# EAGLE library part 74*151 (library 74ttl-din)
Data SELECTOR/MULTIPLEXER
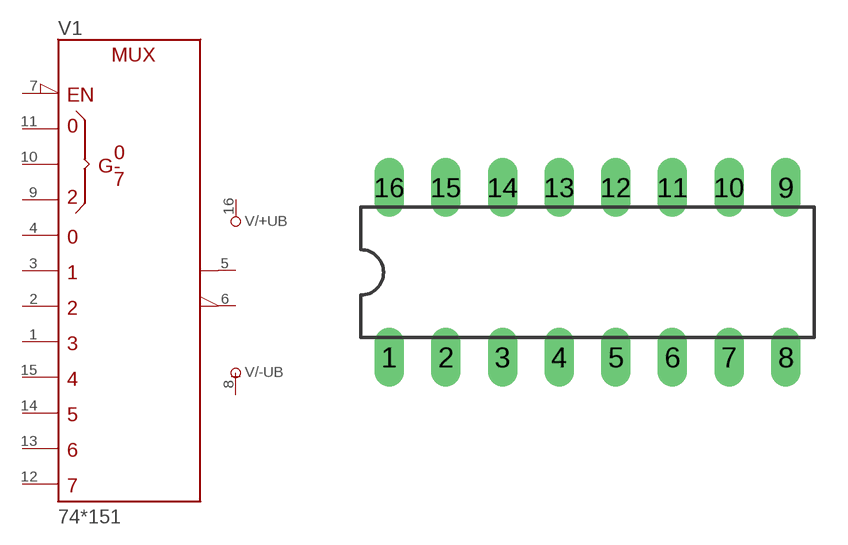
[diagram p85: symbol with the pads of DIL16; footprint DIL16]

Designator prefix V; gates /+UB=+UB /-UB=-UB 1=151

## 74151N  [DIL16]
1  1:D3  in
2  1:D2  in
3  1:D1  in
4  1:D0  in
5  1:Y  out
6  1:W  out
7  1:!G  in
8  /-UB:-UB  pwr
9  1:C  in
10  1:B  in
11  1:A  in
12  1:D7  in
13  1:D6  in
14  1:D5  in
15  1:D4  in
16  /+UB:+UB  pwr

## Footprint DIL16 (pad centres in mm)
Dual In Line Package
drill 0.813 long: 1 -8.89,-3.81; 2 -6.35,-3.81; 3 -3.81,-3.81; 4 -1.27,-3.81; 5 1.27,-3.81; 6 3.81,-3.81; 7 6.35,-3.81; 8 8.89,-3.81; 9 8.89,3.81; 10 6.35,3.81; 11 3.81,3.81; 12 1.27,3.81; 13 -1.27,3.81; 14 -3.81,3.81; 15 -6.35,3.81; 16 -8.89,3.81